# Altium footprint library TRACTIAN-HW-Challenge.PcbLib: 11 footprints
Each footprint in its own frame and in the unit in brackets; x right, y up, seen from the top. Pads: shape width x height; smd on the part's side, far side on the other; paste and mask are expansions set on the pad; w line width, h text height; cw(c..) or ccw(c..) is an arc to the next point about the centre after c.
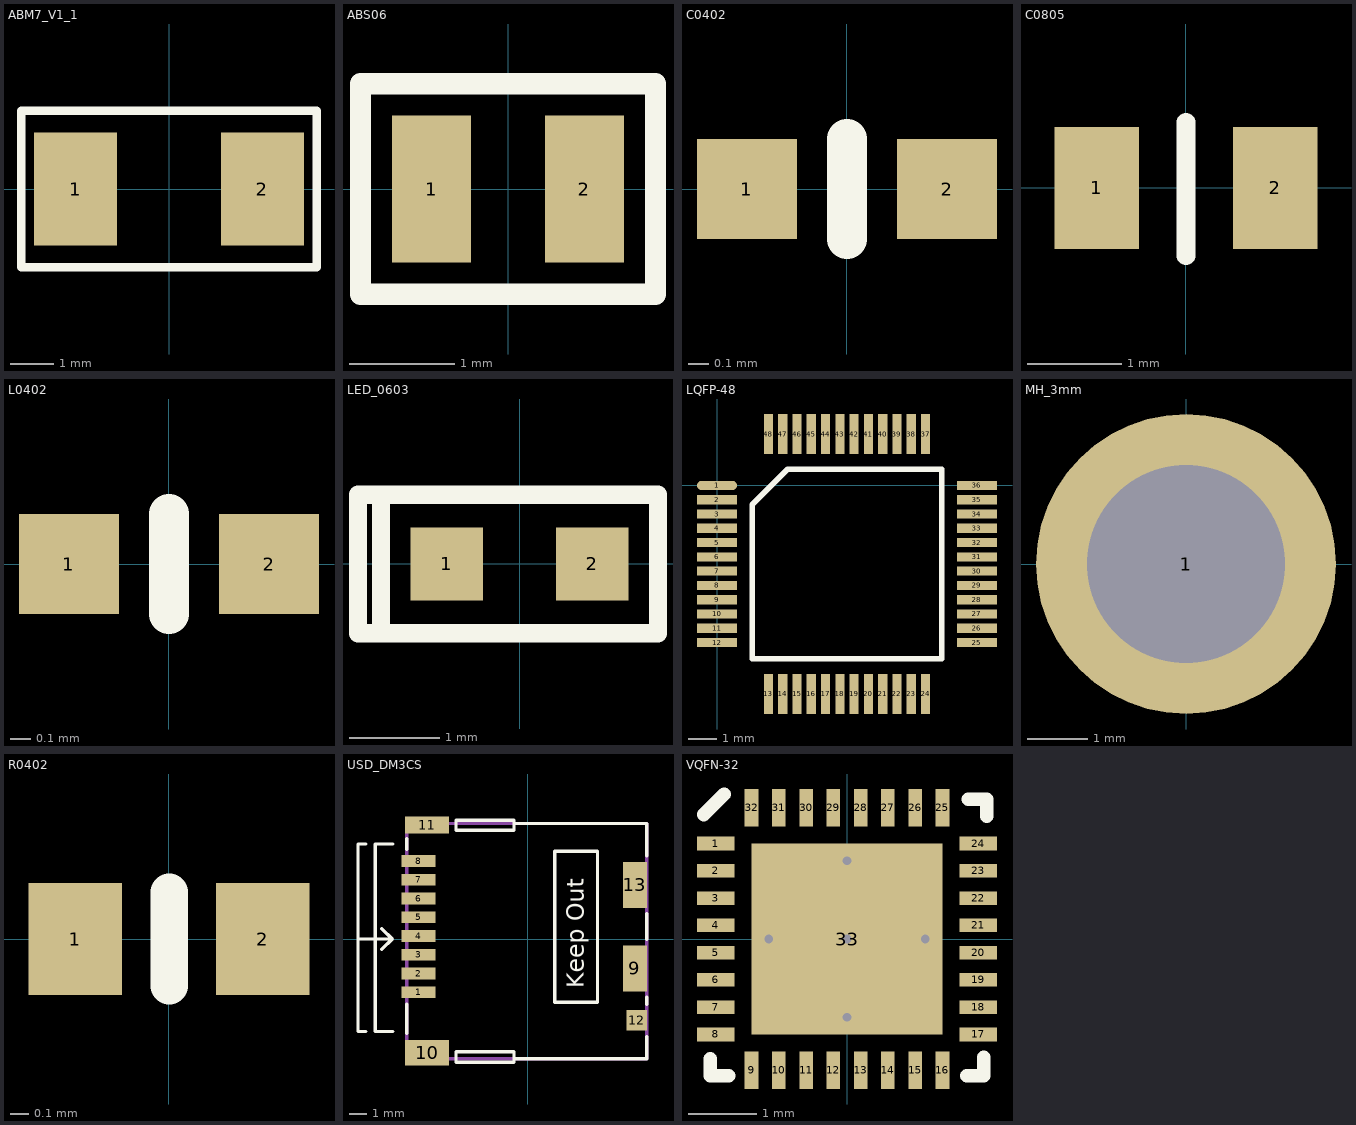
[diagram p0: the footprints below, top view; thin cyan lines are the x and y axes]

## ABM7_V1_1 [mm] "Corrected from 2.2 to 2.4 between pads"
pads (2):
  rect 1.9x2.6 smd: 1(-2.15,0) 2(2.15,0)
Top Overlay:
  lines w0.2: -3.4,-1.8 -3.4,1.8 3.4,1.8 3.4,-1.8 -3.4,-1.8
Mechanical 29:
  text ".Designator" at -2.9,-0.7 h1.52
3D body "Xtal-ABM7.STEP": height 1.44, standoff 0.04, extent -3.1,-1.85 3.1,1.85
3D body: height 1.45, standoff 1.4, extent -2,-1.3 2,1.5

## ABS06 [mm]
pads (2):
  rect 0.75x1.4 smd: 1(-0.725,0) 2(0.725,0)
Top Overlay:
  lines w0.2: -1.4,-1 1.4,-1 1.4,1 -1.4,1 -1.4,0 -1.4,-1
Mechanical 29:
  text ".Designator" at 0.5,0.3 h0.6
3D body: height 1, standoff 0.5, extent -0.825,-0.36 0.825,0.34
3D body "ABS06.STEP": height 0.6, standoff 0, extent -1,-0.62 1,0.6

## C0402 [mm]
pads (2):
  rect 0.5x0.5 smd: 1(-0.5,0) 2(0.5,0)
Top Overlay:
  lines w0.2: 0,-0.25 0,0.25
Mechanical 29:
  text ".Designator" at -0.8,-0.2 h0.4
3D body "CAPC1005X56N EIA 0402.step": height 0.56, standoff 0, extent -0.5,-0.25 0.5,0.25

## C0805 [mm]
pads (2):
  rect 0.9x1.3 smd: 1(-0.95,0) 2(0.95,0)
Top Overlay:
  lines w0.2: 0,-0.725 0,0.7
Mechanical 29:
  text ".Designator" at -1,-0.3 h0.6
3D body "CAPC2012X95N EIA 0805.step": height 0.95, standoff 0, extent -1,-0.6 1,0.6
3D body "CAPC2012X95N EIA 0805.step": height 1.5, standoff 0.55, extent -1,-0.6 1,0.6

## L0402 [mm]
pads (2):
  rect 0.5x0.5 smd: 1(-0.5,0) 2(0.5,0)
Top Overlay:
  lines w0.2: 0,-0.25 0,0.25
Mechanical 29:
  text ".Designator" at -0.8,-0.2 h0.4
3D body "Coilcraft-0402ME.STEP": height 0.51, standoff -0.01, extent -0.51,-0.381 0.51,0.381

## LED_0603 [mm]
pads (2):
  rect 0.8x0.8 smd: 1(-0.8,0) 2(0.8,0)
Top Overlay:
  lines w0.2: -1.524,-0.762 -1.524,0.762 ; -1.778,-0.762 -1.778,0.762 1.524,0.762 1.524,-0.762 -1.778,-0.762
Mechanical 29:
  text ".Designator" at 0.5,0.3 h0.6
3D body: height 0.66, standoff 0.5, extent -0.2,-0.2 0.2,0.2
3D body "LED SMD 0603.step": height 0.65, standoff 0, extent -0.85,-0.4 0.85,0.4

## LQFP-48 [mm] "LQFP-48 (PT)"
height 1.6
pads (48):
  oval 1.4x0.32 smd: 1(0,0)
  rect 1.4x0.32 smd: 2(0,-0.5) 3(0,-1) 4(0,-1.5) 5(0,-2) 6(0,-2.5) 7(0,-3) 8(0,-3.5) 9(0,-4) 10(0,-4.5) 11(0,-5) 12(0,-5.5) 25(9.1,-5.5) 26(9.1,-5) 27(9.1,-4.5) 28(9.1,-4) 29(9.1,-3.5) 30(9.1,-3) 31(9.1,-2.5) 32(9.1,-2) 33(9.1,-1.5) 34(9.1,-1) 35(9.1,-0.5) 36(9.1,0)
  rect 0.32x1.4 smd: 13(1.8,-7.3) 14(2.3,-7.3) 15(2.8,-7.3) 16(3.3,-7.3) 17(3.8,-7.3) 18(4.3,-7.3) 19(4.8,-7.3) 20(5.3,-7.3) 21(5.8,-7.3) 22(6.3,-7.3) 23(6.8,-7.3) 24(7.3,-7.3) 37(7.3,1.8) 38(6.8,1.8) 39(6.3,1.8) 40(5.8,1.8) 41(5.3,1.8) 42(4.8,1.8) 43(4.3,1.8) 44(3.8,1.8) 45(3.3,1.8) 46(2.8,1.8) 47(2.3,1.8) 48(1.8,1.8)
Top Overlay:
  lines w0.2: 1.235,-6.065 1.235,-0.67 2.47,0.565 7.865,0.565 7.865,-6.065 1.235,-6.065
3D body "User Library-LQFP48_Grid_0_5.STEP": height 1.6, standoff 0, extent 0.05,-7.25 9.05,1.75

## MH_3mm [mm]
pads (1):
  round 5 hole 3.3 unplated paste+0: 1(0,0)

## R0402 [mm]
pads (2):
  rect 0.5x0.6 smd: 1(-0.5,0) 2(0.5,0)
Top Overlay:
  lines w0.2: 0,-0.25 0,0.25
Mechanical 29:
  text ".Designator" at -0.7,-0.2 h0.4
3D body "R0402.step": height 0.4, standoff 0, extent -0.5,-0.25 0.5,0.25

## USD_DM3CS [mm] "Creator MM"
height 1.83
pads (13):
  rect 2x0.7 smd: 1(-6.4,-3.125) 2(-6.4,-2.025) 3(-6.4,-0.925) 4(-6.4,0.175) 5(-6.4,1.275) 6(-6.4,2.375) 7(-6.4,3.475) 8(-6.4,4.575)
  rect 1.4x2.7 smd: 9(6.3,-1.725) 13(6.3,3.175)
  rect 2.6x1.5 smd: 10(-5.9,-6.675)
  rect 2.6x1 smd: 11(-5.9,6.675)
  rect 1.2x1.2 smd: 12(6.4,-4.775)
Top Overlay:
  lines w0.2: -9.95,0 -7.95,0 ; -9.5,-5.425 -9.95,-5.425 -9.95,5.575 -9.5,5.575 ; -8.55,-0.6 -7.95,0 ; -8.55,0.6 -7.95,0 ; -7.9,-5.425 -8.95,-5.425 -8.95,5.575 -7.9,5.575 ; -7.1,-5.525 -7.1,-3.825 ; -7.1,5.275 -7.1,5.875 ; -0.8,-7.025 7,-7.025 7,-5.725 ; -0.8,6.775 7,6.775 7,4.875 ; 7,-3.825 7,-3.425 ; 7,-0.025 7,1.475 ; -4.2,-7.225 -0.8,-7.225 -0.8,-6.625 -4.2,-6.625 -4.2,-7.225 ; -4.2,6.375 -4.2,6.975 -0.8,6.975 -0.8,6.375 -4.2,6.375 ; 1.6,-3.7 4.1,-3.7 4.1,5.15 1.6,5.15 1.6,-3.7
  text "Keep Out" at 3.3,-2.9 h1
Mechanical 16:
  lines w0.2: -7.1,-7.025 7,-7.025 7,6.775 -7.1,6.775 -7.1,-7.025
Mechanical 29:
  text ".Designator" at -0.2,-2 h1.52
3D body "DM3CS-SF.stp": height 1.98, standoff 0.05, extent -7.1,-7.025 7,6.775

## VQFN-32 [mm] "4x4x1 mm"
height 1
pads (33):
  rect 0.55x0.2 smd mask+0.025: 1(-1.925,1.4) 2(-1.925,1) 3(-1.925,0.6) 4(-1.925,0.2) 5(-1.925,-0.2) 6(-1.925,-0.6) 7(-1.925,-1) 8(-1.925,-1.4) 17(1.925,-1.4) 18(1.925,-1) 19(1.925,-0.6) 20(1.925,-0.2) 21(1.925,0.2) 22(1.925,0.6) 23(1.925,1) 24(1.925,1.4)
  rect 0.2x0.55 smd mask+0.025: 9(-1.4,-1.925) 10(-1,-1.925) 11(-0.6,-1.925) 12(-0.2,-1.925) 13(0.2,-1.925) 14(0.6,-1.925) 15(1,-1.925) 16(1.4,-1.925) 25(1.4,1.925) 26(1,1.925) 27(0.6,1.925) 28(0.2,1.925) 29(-0.2,1.925) 30(-0.6,1.925) 31(-1,1.925) 32(-1.4,1.925)
  rect 2.8x2.8 smd paste-10 mask+0.025: 33(0,0)
via 1.15,0 diameter 0.315 hole 0.127
via 0,-1.15 diameter 0.315 hole 0.127
via 0,1.15 diameter 0.315 hole 0.127
via -1.15,0 diameter 0.315 hole 0.127
via 0,0 diameter 0.315 hole 0.127
Top Overlay:
  lines w0.2: -2.1,1.825 -1.8,2.125 ; -2.005,-1.755 -2.005,-2.005 -1.735,-2.005 ; 1.755,-2.005 2.005,-2.005 2.005,-1.735 ; 1.78,2.05 2.05,2.05 2.05,1.8
Top Paste:
  rectangle: -1.33,0.1 -0.1,1.33
  region: 0.1,1.33 0.1,0.1 1.33,0.1 1.33,1.33
  region: -0.1,-1.33 -0.1,-0.1 -1.33,-0.1 -1.33,-1.33
  region: 1.33,-0.1 0.1,-0.1 0.1,-1.33 1.33,-1.33
Mechanical 29:
  text ".Designator" at -0.6,1 h1.2
3D body "User Library-QFN32-0_4.STEP": height 0.95, standoff -0.05, extent -2.005,-2.005 2.005,2.005